# Altium footprint library LB - V01-R01.PcbLib: 25 footprints (part 1 of 2)
Each footprint in its own frame and in the unit in brackets; x right, y up, seen from the top. Pads: shape width x height; smd on the part's side, far side on the other; paste and mask are expansions set on the pad; w line width, h text height; cw(c..) or ccw(c..) is an arc to the next point about the centre after c.
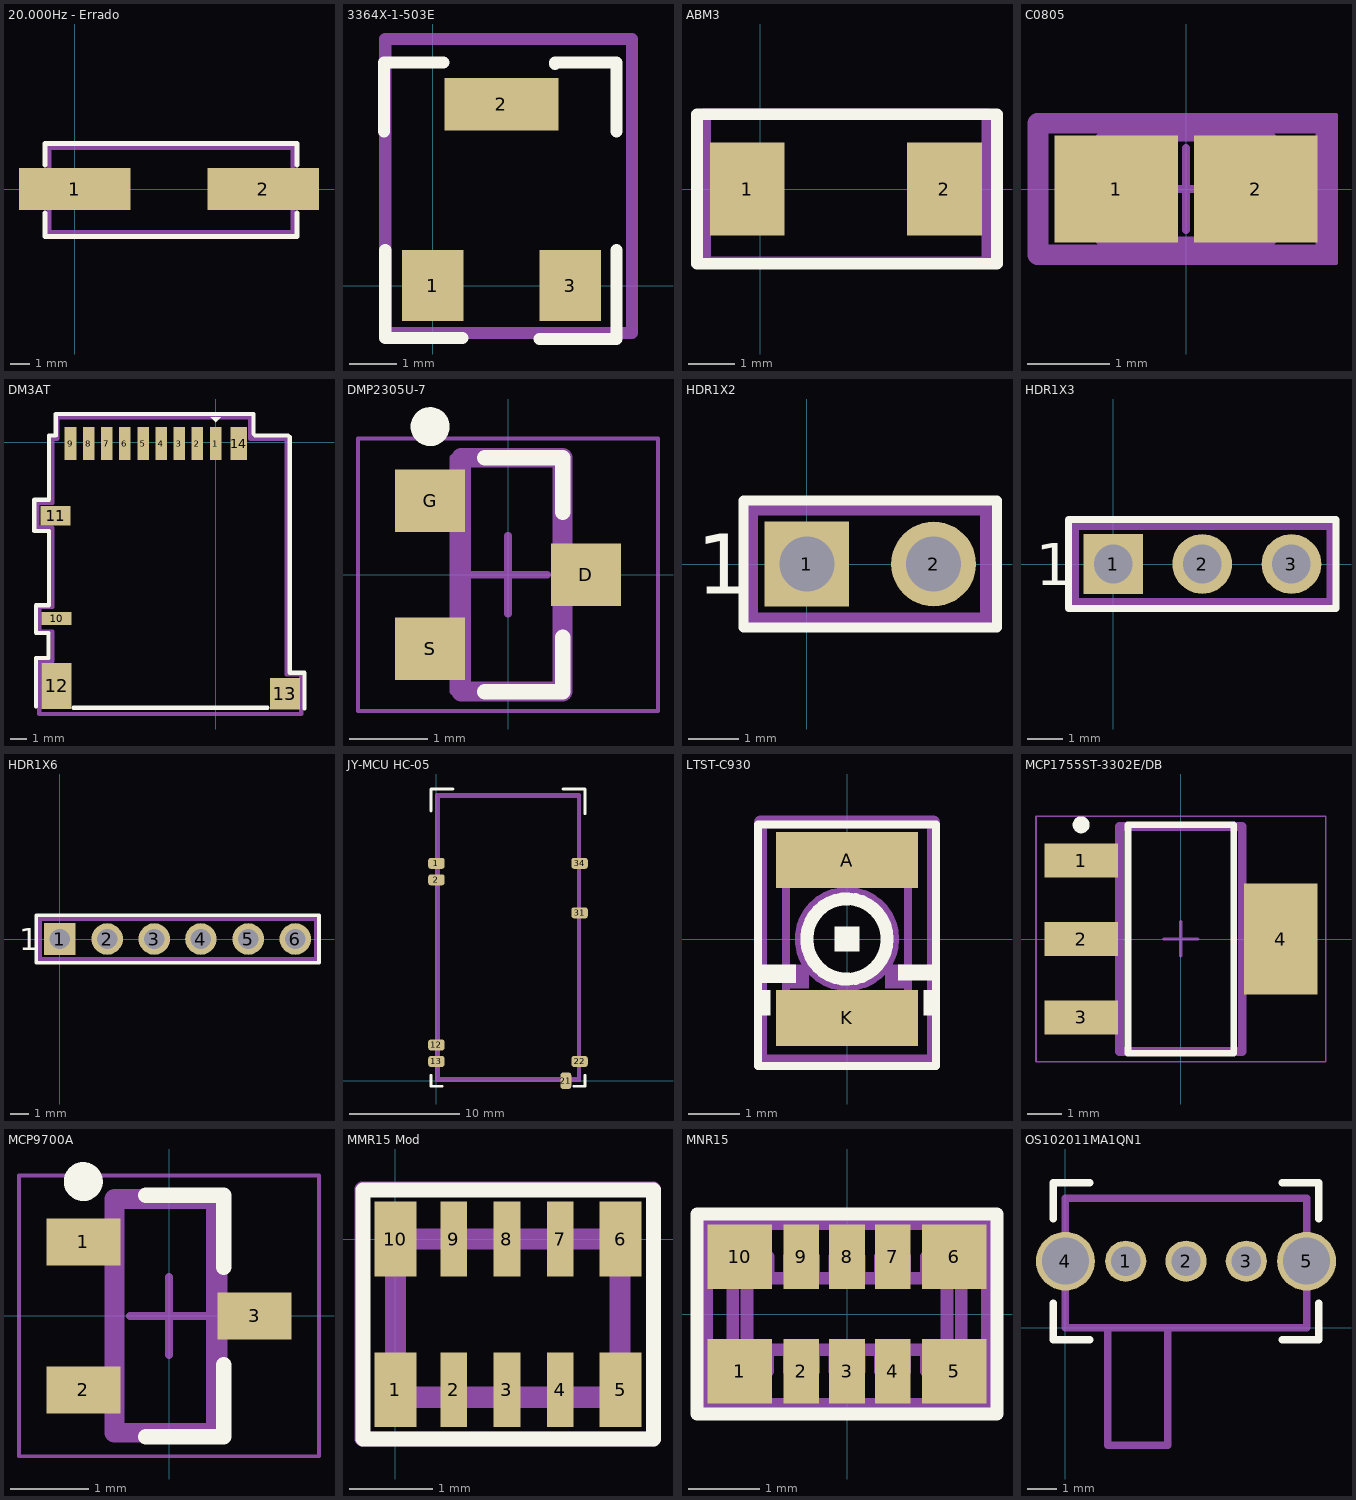
[diagram p0: the footprints below, top view; thin cyan lines are the x and y axes]

## 20.000Hz - Errado [mm]
pads (2):
  rect 5.6x2.1 smd: 1(0,0) 2(9.5,0)
Top Overlay:
  lines w0.254: -1.5,-1.2 -1.5,-2.4 11.2,-2.4 11.2,-1.2 ; -1.5,1.2 -1.5,2.3 11.2,2.3 11.2,1.2
Mechanical 31:
  lines w0.254: -1.3,-2.2 11,-2.2 11,1.3 11,2.1 -1.3,2.1 -1.3,-2.2
  text ".Designator" at -1.6,-3.7 h0.8
3D body: height 4.2, standoff 0, extent -1.4,-2.3 11,2.1

## 3364X-1-503E [mm] "Trimpot 50k"
pads (3):
  rect 1.3x1.5 smd: 1(0,0) 3(2.9,0)
  rect 2.4x1.1 smd: 2(1.45,3.825)
Top Overlay:
  lines w0.254: -1.025,3.25 -1.025,4.7 0.225,4.7 ; -1,0.75 -1,-1.1 0.625,-1.1 ; 2.25,-1.125 3.875,-1.125 3.875,0.75 ; 2.575,4.675 2.575,4.7 3.875,4.7 3.875,3.25
Mechanical 31:
  lines w0.254: -1,-1 4.2,-1 4.2,5.2 -1,5.2 -1,-0.8 -1,-1
  text ".Designator" at -1.3,-2.5 h0.8
3D body: height 1.5, standoff 0, extent -1,-1 4.2,5.2

## ABM3 [mm] "Crystal 20.000MHz"
pads (2):
  rect 1.6x2 smd: 1(-0.275,0) 2(3.95,0)
Top Overlay:
  lines w0.254: -1.35,-1.6 5.075,-1.6 5.075,1.6 -1.35,1.6 -1.35,-1.6
Mechanical 31:
  lines w0.254: -1.175,-1.575 -1.175,1.6 4.875,1.6 4.875,1.575 4.875,-1.575 -1.175,-1.575
  text ".Designator" at -1.175,-2.725 h0.8
3D body: height 1.3, standoff 0, extent -1.05,-1.475 4.75,1.475

## C0805 [mm] "Molded Capacitor, 2-Leads, Body 2.00x1.25mm, IPC Medium Density"
height 0.6
pads (2):
  rect 1.5x1.3 smd: 1(-0.85,0) 2(0.85,0)
Mechanical 1:
  lines w0.1: -1.05,-0.63 -1.05,0.63 1.05,0.63 1.05,-0.63 -1.05,-0.63
Mechanical 15:
  lines w0.05: -1.825,-0.9 1.825,-0.9 1.825,0.9 -1.825,0.9 -1.825,-0.9
  lines w0.1: -0.5,0 0.5,0 ; 0,-0.5 0,0.5
Mechanical 31:
  lines w0.254: -1.8,-0.8 1.7,-0.8 1.7,0.8 -1.8,0.8 -1.8,-0.8
  text ".Designator" at -1.8,-2 h0.8
3D body: height 0.6, standoff 0, extent -1.05,-0.63 1.05,0.63

## DM3AT [mm]
pads (14):
  rect 0.7x2 smd: 1(0,-0.1) 2(-1.1,-0.1) 3(-2.2,-0.1) 4(-3.3,-0.1) 5(-4.4,-0.1) 6(-5.5,-0.1) 7(-6.6,-0.1) 8(-7.7,-0.1) 9(-8.8,-0.1)
  rect 1.8x0.8 smd: 10(-9.65,-10.71)
  rect 1.8x1.2 smd: 11(-9.71,-4.47)
  rect 1.8x2.8 smd: 12(-9.65,-14.8)
  rect 1.8x1.9 smd: 13(4.21,-15.28)
  rect 1x2 smd: 14(1.4,-0.1)
Top Overlay:
  region: -0.3,1.5 0.3,1.5 0,1.2
  lines w0.254: -10.9,-16.05 -10.9,-13.1 -10.13,-13.1 -10.13,-11.6 -10.14,-11.59 -10.87,-11.59 -10.89,-11.57 -10.89,-11.34 -10.89,-9.91 -10.9,-9.9 -10.1,-9.9 -10.1,-5.4 -11,-5.4 -11,-3.5 -10.1,-3.5 -10.1,0.4 -9.7,0.4 -9.7,1.7 -9.5,1.7 2.3,1.7 2.3,0.5 2.4,0.4 4.4,0.4 4.5,0.3 4.5,-14 5.4,-14 5.4,-16.175 ; -8.625,-16.125 3.15,-16.125
Mechanical 31:
  lines w0.254: -9.6,1.5 -9.6,0.2 -9.9,0.2 -9.9,-3.7 -10.8,-3.7 -10.8,-5.2 -9.9,-5.2 -9.9,-10 -10.7,-10 -10.7,-11.5 -9.9,-11.5 -9.9,-13.3 -10.7,-13.3 -10.7,-16.5 5.2,-16.5 5.2,-14.2 5.2,-14.1 4.3,-14.1 4.3,0.1 4.3,0.2 2.1,0.2 2.1,1.4 2.1,1.5 -9.4,1.5
  text ".Designator" at -10.6,-18.1 h0.8
3D body: height 1.68, standoff 0, extent -9.715,-16.19 4.135,-0.04

## DMP2305U-7 [mm] "SOT23, 3-Leads, Body 2.90x2.45mm, Pitch 0.95mm, IPC Medium Density"
height 1.1
pads (3):
  rect 0.9x0.8 smd: D(1,0) G(-1,0.95) S(-1,-0.95)
Top Overlay:
  circle w0.25: c-1,1.9 r0.125
  lines w0.2: -0.3,-1.5 0.7,-1.5 0.7,-0.8 ; -0.3,1.5 0.7,1.5 0.7,0.8
Mechanical 1:
  lines w0.1: -0.7,-1.5 0.7,-1.5 0.7,1.5 -0.7,1.5 -0.7,-1.5
Mechanical 15:
  lines w0.05: -1.925,-1.75 -1.925,1.75 1.925,1.75 1.925,-1.75 -1.925,-1.75
  lines w0.1: -0.5,0 0.5,0 ; 0,-0.5 0,0.5
Mechanical 31:
  lines w0.254: -0.6,-1.5 -0.4,-1.5 0.7,-1.5 0.7,1.5 -0.6,1.5 -0.6,-1.5
  text ".Designator" at -1.5,-2.5 h0.8
3D body: height 1.1, standoff 0.05, extent -0.7,-1.5 0.7,1.5

## HDR1X2 [mm] "Connector; Header; 2 Position"
pads (2):
  rect 1.7x1.7 hole 1.1: 1(0,0)
  round 1.7 hole 1.1: 2(2.54,0)
Top Overlay:
  lines w0.2: -1.27,-1.27 3.81,-1.27 3.81,1.27 -1.27,1.27 -1.27,-1.27
  text "1" at -2.2,-0.6 h1.2
Mechanical 31:
  lines w0.254: -1.1,-1.1 3.6,-1.1 3.6,1 3.6,1.1 -1.1,1.1 -1.1,-1.1
  text ".Designator" at -1.3,-2.4 h0.8
3D body: height 10.02, standoff -3.57, extent -1.27,-3.175 3.81,2.667

## HDR1X3 [mm] "Connector; Header; 3 Position"
pads (3):
  rect 1.7x1.7 hole 1.1: 1(0,0)
  round 1.7 hole 1.1: 2(2.54,0) 3(5.08,0)
Top Overlay:
  lines w0.2: -1.27,-1.27 -1.27,1.27 6.35,1.27 6.35,-1.27 -1.27,-1.27
  text "1" at -2.2,-0.6 h1.2
Mechanical 31:
  lines w0.254: -1.1,-1.1 6.2,-1.1 6.2,1.1 -1.1,1.1 -1.1,-1.1
  text ".Designator" at -1.1,-2.5 h0.8
3D body: height 5.87, standoff -3.52, extent -1.268,-0.335 6.352,10.714

## HDR1X6 [mm] "Connector; Header; 6 Position"
pads (6):
  rect 1.7x1.7 hole 1.1: 1(0,0)
  round 1.7 hole 1.1: 2(2.54,0) 3(5.08,0) 4(7.585,0) 5(10.125,0) 6(12.665,0)
Top Overlay:
  lines w0.2: 6.315,-1.27 13.935,-1.27 13.935,1.27 6.315,1.27 ; 6.35,-1.27 -1.27,-1.27 -1.27,1.27 6.35,1.27
  text "1" at -2.2,-0.6 h1.2
Mechanical 31:
  lines w0.254: -1.1,-1.1 -1.1,1.1 13.8,1.1 13.8,0.7 13.8,-1.1 -1.1,-1.1
  text ".Designator" at -1.3,-3.1 h0.8
3D body: height 8.64, standoff -2.92, extent -1.265,-1.778 13.975,1.778

## JY-MCU HC-05 [mm] "Modulo Bluetooth HC-0x"
pads (8):
  rrect50% 1.5x1 smd: 1(0,19.75) 2(0,18.25) 12(0,3.25) 13(0,1.75) 22(13,1.75) 31(13,15.25) 34(13,19.75)
  rrect50% 1x1.5 smd: 21(11.75,0)
Top Overlay:
  lines w0.254: -0.5,0.5 -0.5,-0.5 0.5,-0.5 ; 1.5,26.5 -0.5,26.5 ; 11.5,26.5 13.5,26.5 13.5,24.25 ; 12.5,-0.5 13.5,-0.5 13.5,0.5 ; -0.5,26.5 -0.5,24.5 -0.5,26.5
Mechanical 1:
  lines w0.254: 0,0 0,26 13,26 13,0 0,0
Mechanical 31:
  lines w0.254: 0.2,0.2 12.9,0.2 12.9,25.8 0.2,25.8 0.2,0.2
  text ".Designator" at 0.4,-1.6 h0.8
3D body: height 2, standoff 0, extent 0,0 13,26

## LTST-C930 [mm] "LED LITE-ON LTST-C930"
height 2.4
pads (2):
  rect 2.8x1.1 smd: A(0,1.55) K(0,-1.55)
Top Overlay:
  circle w0.254: c0,0 r0.791
  region: -1,-0.864 -1,-0.5 -1.75,-0.5 -1.75,-0.864
  region: -1.5,-1.5 -1.5,-1 -1.75,-1 -1.75,-1.5
  region: 1.75,-1.5 1.75,-1 1.5,-1 1.5,-1.5
  region: 1.75,-0.813 1.75,-0.5 1,-0.5 1,-0.813
  region: 0.25,-0.25 0.25,0.25 -0.25,0.25 -0.25,-0.25
  lines w0.152: -1.75,-2.5 1.75,-2.5 1.75,2.25 -1.75,2.25 -1.75,-2.5
Mechanical 1:
  circle w0.254: c0,0 r0.9
  region: -0.75,-0.975 -0.75,-0.5 -1.2,-0.5 -1.2,-0.975
  region: 1.2,-0.975 1.2,-0.5 0.75,-0.5 0.75,-0.975
  lines w0.152: -1.2,-1.6 1.2,-1.6 1.2,1.6 -1.2,1.6 -1.2,-1.6
Mechanical 31:
  lines w0.254: -1.7,-2.4 1.7,-2.4 1.7,2.3 -1.7,2.3 -1.7,-2.4
  text ".Designator" at -1.7,-3.5 h0.8
3D body: height 1, standoff 0, extent -1.23,-1.537 1.23,1.538
3D body: height 2.4, standoff 0, extent -0.992,-0.998 1,0.998

## MCP1755ST-3302E/DB [mm] "Regulador 3.3V - SOT223-3, 4-Leads, Body 6.50x7.00mm (avg), Pitch 2.30mm, IPC Medium Density"
height 1.8
pads (4):
  rect 2.15x1 smd: 1(-2.925,2.3) 2(-2.925,0) 3(-2.925,-2.3)
  rect 2.15x3.25 smd: 4(2.925,0)
Top Overlay:
  circle w0.25: c-2.925,3.35 r0.125
  lines w0.2: -1.55,-3.35 1.55,-3.35 1.55,3.35 -1.55,3.35 -1.55,-3.35
Mechanical 1:
  lines w0.1: -1.85,-3.35 -1.85,3.35 1.85,3.35 1.85,-3.35 -1.85,-3.35
Mechanical 15:
  lines w0.05: -4.25,-3.6 4.25,-3.6 4.25,3.6 -4.25,3.6 -4.25,-3.6
  lines w0.1: -0.5,0 0.5,0 ; 0,-0.5 0,0.5
Mechanical 31:
  lines w0.254: -1.8,-3.3 -1.8,3.3 1.8,3.3 1.8,-3.3 -1.8,-3.3
  text ".Designator" at -4,-4.7 h0.8
3D body: height 1.8, standoff 0.02, extent -1.85,-3.35 1.85,3.35

## MCP9700A [mm] "Sensor de temperatura"
height 1.12
pads (3):
  rect 0.95x0.6 smd: 1(-1.1,0.95) 2(-1.1,-0.95) 3(1.1,0)
Top Overlay:
  circle w0.25: c-1.1,1.725 r0.125
  lines w0.2: -0.3,-1.55 0.7,-1.55 0.7,-0.625 ; -0.3,1.55 0.7,1.55 0.7,0.625
Mechanical 1:
  lines w0.1: -0.7,-1.525 -0.7,1.525 0.7,1.525 0.7,-1.525 -0.7,-1.525
Mechanical 15:
  lines w0.05: -1.925,-1.8 -1.925,1.8 1.925,1.8 1.925,-1.8 -1.925,-1.8
  lines w0.1: -0.5,0 0.5,0 ; 0,-0.5 0,0.5
Mechanical 31:
  lines w0.254: -0.7,-1.5 -0.7,1.5 0.6,1.5 0.6,-1.5 -0.7,-1.5
  text ".Designator" at -1.8,-2.7 h0.8
3D body: height 1.12, standoff 0.1, extent -0.7,-1.525 0.7,1.525

## MMR15 Mod [mm]
pads (10):
  rect 0.5x0.9 smd: 1(0,-1.81) 5(2.705,-1.81) 6(2.705,0) 10(0,0)
  rect 0.32x0.9 smd: 2(0.7,-1.81) 3(1.34,-1.81) 4(1.98,-1.81) 7(1.98,0) 8(1.34,0) 9(0.7,0)
Top Overlay:
  lines w0.18: -0.39,-2.4 3.1,-2.4 3.1,0.59 -0.39,0.59 -0.39,-2.4
Mechanical 1:
  lines w0.254: 0,-1.9 0,0 2.7,0 2.7,-1.9 0,-1.9
Mechanical 31:
  lines w0.18: -0.4,-2.4 3.1,-2.4 3.1,0.6 -0.4,0.6 -0.4,-2.4
  text ".Designator" at -0.5,-4.2 h0.8
3D body: height 0.55, standoff 0, extent 0.03,-1.95 2.73,-0.05

## MNR15 [mm]
pads (10):
  rect 0.9x0.9 smd: 1(-1.5,-0.8) 5(1.5,-0.8) 6(1.5,0.8) 10(-1.5,0.8)
  rect 0.5x0.9 smd: 2(-0.64,-0.8) 3(0,-0.8) 4(0.64,-0.8) 7(0.64,0.8) 8(0,0.8) 9(-0.64,0.8)
Top Overlay:
  lines w0.178: -2.1,-1.4 2.1,-1.4 2.1,1.4 -2.1,1.4 -2.1,-1.4
Mechanical 1:
  lines w0.178: -1.6,-0.7 -1.36,-0.7 -1.36,-0.5 ; -1.6,0.7 -1.36,0.7 -1.36,0.5 ; -1.2,-0.5 -1.2,-0.7 -1.11,-0.7 ; -1.2,0.5 -1.2,0.7 -1.11,0.7 ; -1.103,0.5 -1.103,0.8 -1.6,0.8 -1.6,-0.8 -1.11,-0.8 -1.11,-0.5 -1.022,-0.5 ; -0.81,-0.7 -0.72,-0.7 -0.72,-0.5 ; -0.81,0.7 -0.72,0.7 -0.72,0.5 ; -0.56,-0.5 -0.56,-0.7 -0.47,-0.7 ; -0.56,0.5 -0.56,0.7 -0.47,0.7 ; -0.17,-0.7 -0.08,-0.7 -0.08,-0.5 ; -0.17,0.7 -0.08,0.7 -0.08,0.5 ; 0.08,-0.5 0.08,-0.7 0.17,-0.7 ; 0.08,0.5 0.08,0.7 0.17,0.7 ; 0.47,-0.7 0.56,-0.7 0.56,-0.5 ; 0.47,0.7 0.56,0.7 0.56,0.5 ; 0.72,-0.5 0.72,-0.7 0.81,-0.7 ; 0.72,0.5 0.72,0.7 0.81,0.7 ; 1.11,-0.7 1.2,-0.7 1.2,-0.5 ; 1.11,-0.5 1.11,-0.8 1.6,-0.8 1.6,0.8 1.11,0.8 1.11,0.5 ; 1.11,0.7 1.2,0.7 1.2,0.5 ; 1.36,-0.5 1.36,-0.7 1.6,-0.7 ; 1.36,0.5 1.36,0.7 1.6,0.7 ; -1.4,-0.5 1.4,-0.5 1.4,0.5 -1.4,0.5 -1.4,-0.5 ; -0.81,-0.8 -0.81,-0.5 -0.47,-0.5 -0.47,-0.8 -0.81,-0.8 ; -0.81,0.5 -0.47,0.5 -0.47,0.8 -0.81,0.8 -0.81,0.5 ; -0.17,-0.8 -0.17,-0.5 0.17,-0.5 0.17,-0.8 -0.17,-0.8 ; -0.17,0.5 0.17,0.5 0.17,0.8 -0.17,0.8 -0.17,0.5 ; 0.47,-0.8 0.47,-0.5 0.81,-0.5 0.81,-0.8 0.47,-0.8 ; 0.47,0.5 0.81,0.5 0.81,0.8 0.47,0.8 0.47,0.5
Mechanical 31:
  lines w0.254: -2,-1.3 2,-1.3 2,1.2 2,1.3 -2,1.3 -2,-1.2 -2,-1.3
  text ".Designator" at -2,-2.4 h0.8
3D body: height 0.55, standoff 0, extent -2.05,-1.435 2.05,1.435

## OS102011MA1QN1 [mm] "Chave H-H"
pads (5):
  round 1.4 hole 1: 1(2.05,2.255) 2(4.1,2.255) 3(6.15,2.255)
  round 2 hole 1.6: 4(0,2.255) 5(8.2,2.255)
Top Overlay:
  lines w0.254: -0.41,0.82 -0.41,-0.41 0.41,-0.41 0.82,-0.41 ; -0.41,3.69 -0.41,4.92 0,4.92 0.513,4.92 0.82,4.92 ; 7.38,-0.41 8.61,-0.41 8.61,0.82 ; 7.38,4.92 8.61,4.92 8.61,3.69
Mechanical 1:
  lines w0.254: 1.435,0 1.435,-4 3.435,-4 ; 3.485,-4 3.485,0 ; 0,0 0,4.4 8.2,4.4 8.2,0 0,0
Mechanical 31:
  lines w0.254: 0,0 0,4.4 8.2,4.4 8.2,0 0,0
  text ".Designator" at -2.3,4.7 h0.8
3D body: height 3.6, standoff 1.6, extent 1.435,-4 3.485,0
3D body: height 4.7, standoff 0, extent 0,0 8.2,4.4